# EAGLE library part CON_CORTEX_DBG (library laforge)
Connectors for the ARM CORTEX SWD
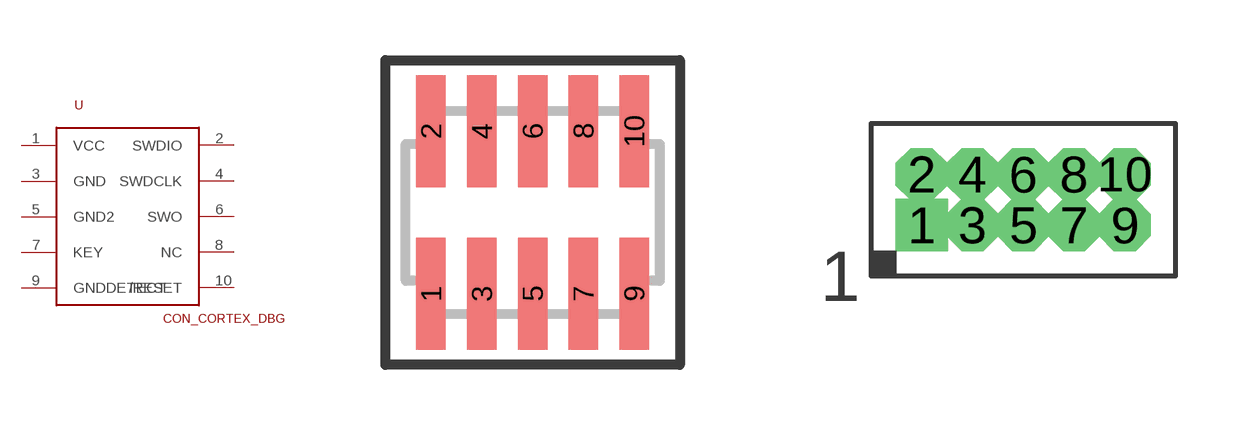
[diagram p2: symbol with the pads of FTSH-105-01-XXX-DV-K; footprints FTSH-105-01-XXX-DV-K, CORTEX_SWD_TH_2X5]

Designator prefix -

## CON_CORTEX_DBG  [FTSH-105-01-XXX-DV-K]
1  VCC  pwr
2  SWDIO
3  GND  pwr
4  SWDCLK
5  GND2  pwr
6  SWO
7  KEY
8  NC
9  GNDDETECT
10  /RESET

## CON_CORTEX_DBGTH  [CORTEX_SWD_TH_2X5]
Pads as for FTSH-105-01-XXX-DV-K

## Footprint FTSH-105-01-XXX-DV-K (pad centres in mm)
TERMINAL STRIP, .050 inch(1.27mm) PITCH, 10 PINS, KEYED
smd 0.737 x 2.794: 1 -2.54,-2.032; 2 -2.54,2.032; 3 -1.27,-2.032; 4 -1.27,2.032; 5 0,-2.032; 6 0,2.032; 7 1.27,-2.032; 8 1.27,2.032; 9 2.54,-2.032; 10 2.54,2.032

## Footprint CORTEX_SWD_TH_2X5 (pad centres in mm)
drill 0.8 pad 0.94 square: 1 -2.54,-1.27
drill 0.8 pad 0.94 octagon: 2 -2.54,0; 3 -1.27,-1.27; 4 -1.27,0; 5 0,-1.27; 6 0,0; 7 1.27,-1.27; 8 1.27,0; 9 2.54,-1.27; 10 2.54,0